# Altium schematic symbol library IRF510.SchLib: 1 symbol
Pins are listed as number, name and electrical type; pins without a type are passive.

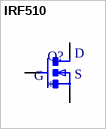
[diagram p0: symbol IRF510]

## IRF510
designator Q?
N-Channel 100V 5.6A (Tc) 43W (Tc) Through Hole TO-220AB; MF: Vishay Siliconix; MP: IRF510; Availability: Bad; Value: *; Check_prices: https://www.snapeda.com/parts/IRF510/Vishay%20Siliconix/view-part/524540/?ref=eda; Package: TO-220 Vishay; SnapEDA_Link: https://www.snapeda.com/parts/IRF510/Vishay%20Siliconix/view-part/524540/?ref=snap; Price: None
footprint TO220
pins: 1 G, 2 D, 3 S